# Altium footprint library 15_to_28_PinB.PcbLib: 42 footprints (part 2 of 3)
Each footprint in its own frame and in the unit in brackets; x right, y up, seen from the top. Pads: shape width x height; smd on the part's side, far side on the other; paste and mask are expansions set on the pad; w line width, h text height; cw(c..) or ccw(c..) is an arc to the next point about the centre after c.
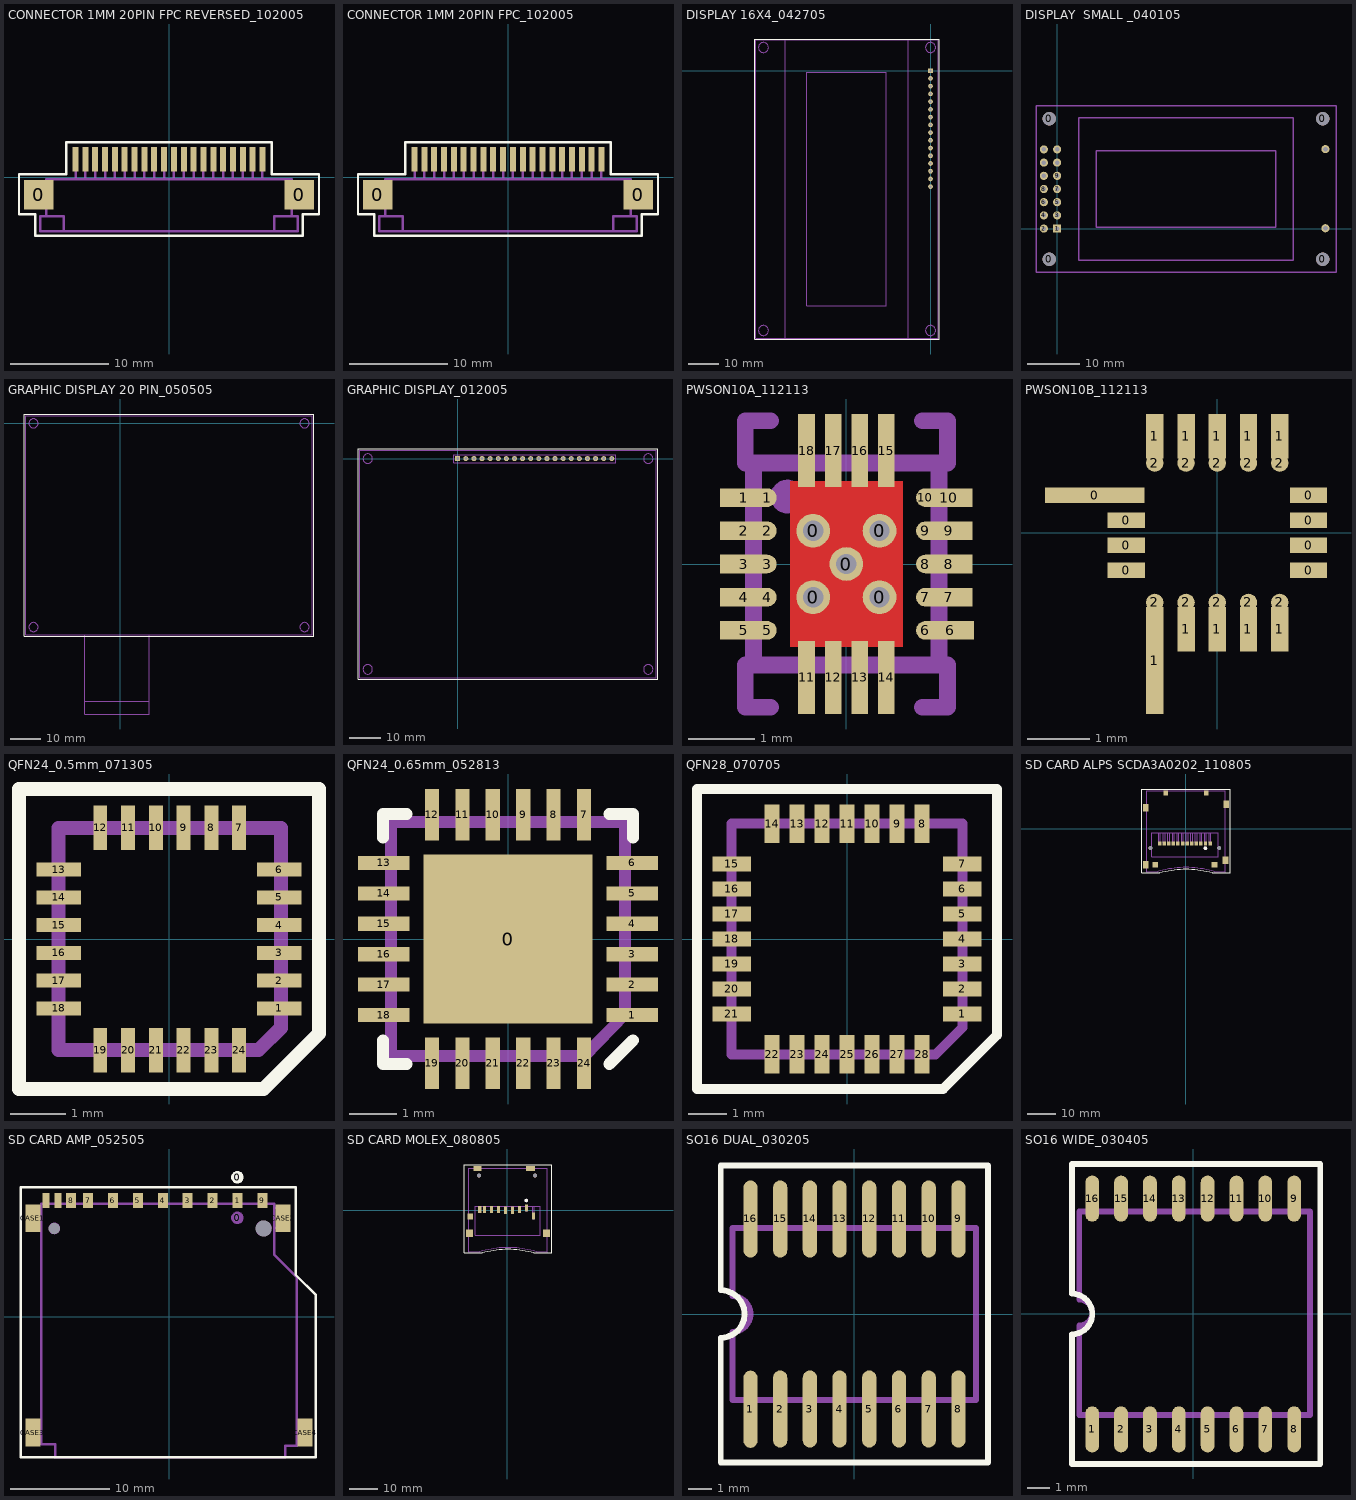
[diagram p1: the footprints below, top view; thin cyan lines are the x and y axes]

## CONNECTOR 1MM 20PIN FPC REVERSED_102005 [mm] "SMT"
height 3.048
pads (22):
  rect 3x3 smd mask+0.038: 0(-13.25,-1.8) 0(13.25,-1.8)
  rect 0.61x2.489 smd mask+0.038: 1(9.5,1.8) 2(8.5,1.8) 3(7.5,1.8) 4(6.5,1.8) 5(5.5,1.8) 6(4.5,1.8) 7(3.5,1.8) 8(2.5,1.8) 9(1.5,1.8) 10(0.5,1.8) 11(-0.5,1.8) 12(-1.5,1.8) 13(-2.5,1.8) 14(-3.5,1.8) 15(-4.5,1.8) 16(-5.5,1.8) 17(-6.5,1.8) 18(-7.5,1.8) 19(-8.5,1.8) 20(-9.5,1.8)
Top Overlay:
  lines w0.254: -15.25,-3.775 -15.25,0.3 -10.425,0.3 -10.425,3.55 0,3.55 10.425,3.55 10.425,0.3 15.25,0.3 15.25,-3.775 13.6,-3.775 13.6,-5.975 0,-5.975 -13.6,-5.975 -13.6,-3.775 -15.25,-3.775
Assembly Outline:
  lines w0.254: -12.85,-4 -10.7,-4 -10.7,-5.5 -13.1,-5.5 -13.1,-4 -12.5,-4 -12.5,-2.25 ; -12.5,-5.5 12.5,-5.5 ; -9.5,-0.2 -9.5,1.8 ; -8.5,-0.2 -8.5,1.8 ; -7.5,-0.2 -7.5,1.8 ; -6.5,-0.2 -6.5,1.8 ; -1.5,-0.2 -1.5,1.8 ; -0.5,-0.2 -0.5,1.8 ; 0.5,-0.2 0.5,1.8 ; 1.5,-0.2 1.5,1.8 ; 2.5,-0.2 2.5,1.8 ; 3.5,-0.2 3.5,1.8 ; 4.5,-0.2 4.5,1.8 ; 5.5,-0.2 5.5,1.8 ; 6.5,-0.2 6.5,1.8 ; 7.5,-0.2 7.5,1.8 ; 8.5,-0.2 8.5,1.8 ; 9.5,-0.2 9.5,1.8 ; 12.85,-4 10.7,-4 10.7,-5.5 13.1,-5.5 13.1,-4 12.5,-4 12.5,-2.25 ; -12.5,-2.25 -12.5,-0.95 ; -12.5,-2.25 -13.8,-2.25 -13.8,-0.95 -12.5,-0.95 ; -12.5,-0.95 -12.5,-0.2 0,-0.2 12.5,-0.2 12.5,-0.95 ; -3.5,-0.2 -3.5,1.8 ; -3.5,-0.2 -3.5,1.8 ; -3.5,-0.2 -3.5,1.8 ; -2.5,-0.2 -2.5,1.8 ; -2.5,-0.2 -2.5,1.8 ; -2.5,-0.2 -2.5,1.8 ; 12.5,-2.25 12.5,-0.95 ; 12.5,-2.25 13.8,-2.25 13.8,-0.95 12.5,-0.95 ; -5.5,-0.2 -5.5,1.8 -5.5,-0.2 ; -4.5,-0.2 -4.5,1.8 -4.5,-0.2
Assembly Designator:
  text ".Designator" at -1.651,-2.794 h1.02
Assembly Comment:
  text ".Comment" at -4.953,-4.445 h1.02

## CONNECTOR 1MM 20PIN FPC_102005 [mm] "SMT"
height 3.048
pads (22):
  rect 3x3 smd mask+0.038: 0(-13.25,-1.8) 0(13.25,-1.8)
  rect 0.61x2.489 smd mask+0.038: 1(-9.5,1.8) 2(-8.5,1.8) 3(-7.5,1.8) 4(-6.5,1.8) 5(-5.5,1.8) 6(-4.5,1.8) 7(-3.5,1.8) 8(-2.5,1.8) 9(-1.5,1.8) 10(-0.5,1.8) 11(0.5,1.8) 12(1.5,1.8) 13(2.5,1.8) 14(3.5,1.8) 15(4.5,1.8) 16(5.5,1.8) 17(6.5,1.8) 18(7.5,1.8) 19(8.5,1.8) 20(9.5,1.8)
Top Overlay:
  lines w0.254: -15.25,-3.775 -13.6,-3.775 -13.6,-5.975 0,-5.975 13.6,-5.975 13.6,-3.775 15.25,-3.775 15.25,0.3 10.425,0.3 10.425,3.55 0,3.55 -10.425,3.55 -10.425,0.3 -15.25,0.3 -15.25,-3.775
Assembly Outline:
  lines w0.254: -12.85,-4 -10.7,-4 -10.7,-5.5 -13.1,-5.5 -13.1,-4 -12.5,-4 -12.5,-2.25 ; -12.5,-5.5 12.5,-5.5 ; -9.5,-0.2 -9.5,1.8 ; -8.5,-0.2 -8.5,1.8 ; -7.5,-0.2 -7.5,1.8 ; -6.5,-0.2 -6.5,1.8 ; -1.5,-0.2 -1.5,1.8 ; -0.5,-0.2 -0.5,1.8 ; 0.5,-0.2 0.5,1.8 ; 1.5,-0.2 1.5,1.8 ; 2.5,-0.2 2.5,1.8 ; 3.5,-0.2 3.5,1.8 ; 4.5,-0.2 4.5,1.8 ; 5.5,-0.2 5.5,1.8 ; 6.5,-0.2 6.5,1.8 ; 7.5,-0.2 7.5,1.8 ; 8.5,-0.2 8.5,1.8 ; 9.5,-0.2 9.5,1.8 ; 12.85,-4 10.7,-4 10.7,-5.5 13.1,-5.5 13.1,-4 12.5,-4 12.5,-2.25 ; -12.5,-2.25 -13.8,-2.25 -13.8,-0.95 -12.5,-0.95 ; -12.5,-2.25 -12.5,-0.95 ; -12.5,-0.95 -12.5,-0.2 0,-0.2 12.5,-0.2 12.5,-0.95 ; -3.5,-0.2 -3.5,1.8 ; -3.5,-0.2 -3.5,1.8 ; -3.5,-0.2 -3.5,1.8 ; -2.5,-0.2 -2.5,1.8 ; -2.5,-0.2 -2.5,1.8 ; -2.5,-0.2 -2.5,1.8 ; 12.5,-2.25 13.8,-2.25 13.8,-0.95 12.5,-0.95 ; 12.5,-2.25 12.5,-0.95 ; -5.5,-0.2 -5.5,1.8 -5.5,-0.2 ; -4.5,-0.2 -4.5,1.8 -4.5,-0.2
Assembly Designator:
  text ".Designator" at -1.651,-2.794 h1.02
Assembly Comment:
  text ".Comment" at -4.953,-4.445 h1.02

## DISPLAY 16X4_042705 [mil] "TH"
height 550
pads (16):
  rect 60x60 hole 30: 1(0,0)
  round 60 hole 30: 2(0,-100) 3(0,-200) 4(0,-300) 5(0,-400) 6(0,-500) 7(0,-600) 8(0,-700) 9(0,-800) 10(0,-900) 11(0,-1000) 12(0,-1100) 13(0,-1200) 14(0,-1300) 15(0,-1400) 16(0,-1500)
Top Overlay:
  lines w8: -2270,-3470 -2270,410 110,410 110,-3470 -2270,-3470
Assembly Outline:
  circle w10: c-2160,-3360 r65.19
  circle w10: c0,-3360 r65.19
  circle w10: c0,300 r65.19
  circle w10: c-2160,300 r65.19
  lines w8: -2260,-3360 -2260,-3460 ; -2160,400 -2260,400 ; -1880,-3460 -1880,400 -2260,400 ; -290,400 -290,-3460 100,-3460 ; 0,-3460 100,-3460 ; 100,300 100,400 ; -2260,-3460 -2260,400 ; -2260,-3460 100,-3460 ; -2260,400 100,400 ; 100,-3460 100,400 ; -1600,-3040 -1600,-20 -570,-20 -570,-3040 -1600,-3040

## DISPLAY  SMALL _040105 [mil] "DISPLAY TH"
height 530
pads (20):
  round 100 hole 100: 0(-60,-232.5) 0(-60,832.5) 0(2015,-232.5) 0(2015,832.5)
  rect 62x62 hole 35: 1(0,0)
  round 62 hole 35: 2(-100,0) 3(0,100) 4(-100,100) 5(0,200) 6(-100,200) 7(0,300) 8(-100,300) 9(0,400) 10(-100,400) 11(0,500) 12(-100,500) 13(0,600) 14(-100,600) 15(2035,602.5) 16(2035,2.5)
Assembly Outline:
  lines w10: -160,300 -160,932.5 ; -60,932.5 -160,932.5 ; 977.5,-332.5 -160,-332.5 ; 2115,7.5 2115,-332.5 ; 2115,597.5 2115,932.5 ; -160,-332.5 2115,-332.5 ; -160,-332.5 -160,592.5 -160,932.5 ; -160,932.5 2115,932.5 ; 2115,-332.5 2115,932.5 ; 162.5,-240 1792.5,-240 1792.5,300 1792.5,840 162.5,840 162.5,300 162.5,-240 ; 297.5,10 1657.5,10 1657.5,300 1657.5,590 297.5,590 297.5,300 297.5,10
Assembly Designator:
  text ".Designator" at 816,258.5 h40
Assembly Comment:
  text ".Comment" at 866,184.5 h40

## GRAPHIC DISPLAY 20 PIN_050505 [mil] "SMT"
height 375
Top Overlay:
  lines w10: -1230,-2720 -1230,120 -1155,120 2470,120 2470,-2720 -1230,-2720
Assembly Outline:
  circle w10: c-1110,0 r58.66
  circle w10: c-1110,-2600 r58.66
  circle w10: c2350,-2600 r58.66
  circle w10: c2350,0 r58.66
  lines w10: 370,-3550 -455,-3550 -455,-3710 ; 370,-2700 370,-3710 -455,-3710 ; -1210,100 -1110,100 ; -1210,100 -1110,100 ; -1210,100 -1210,-2505 -1210,-2700 -1110,-2700 ; -1110,-2700 2450,-2700 2450,-2600 2450,100 ; -1110,-2700 -455,-2700 -455,-3710 ; -1110,100 2350,100 ; -1110,100 2350,100 ; 2350,100 2450,100 ; 2350,100 2450,100

## GRAPHIC DISPLAY_012005 [mil] "TH"
pads (20):
  rect 62x62 hole 35: 1(0,0)
  round 62 hole 35: 2(100,0) 3(200,0) 4(300,0) 5(400,0) 6(500,0) 7(600,0) 8(700,0) 9(800,0) 10(900,0) 11(1000,0) 12(1100,0) 13(1200,0) 14(1300,0) 15(1400,0) 16(1500,0) 17(1600,0) 18(1700,0) 19(1800,0) 20(1900,0)
Top Overlay:
  lines w10: -1230,-2720 2470,-2720 2470,120 -1155,120 -1230,120 -1230,-2720
Assembly Outline:
  circle w10: c2350,0 r58.66
  circle w10: c2350,-2600 r58.66
  circle w10: c-1110,-2600 r58.66
  circle w10: c-1110,0 r58.66
  lines w8: -50,-50 -50,50 25,50 1950,50 1950,-50 -50,-50
  lines w10: -1210,100 -1210,-2505 -1210,-2700 -1110,-2700 2450,-2700 2450,-2600 2450,100 ; -1210,100 -1110,100 ; -1210,100 -1110,100 ; -1110,100 2350,100 ; -1110,100 2350,100 ; 2350,100 2450,100 ; 2350,100 2450,100
Assembly Designator:
  text ".Designator" at 845,-185 h40
Assembly Comment:
  text ".Comment" at 770,-125 h40

## PWSON10A_112113 [mm]
pads (33):
  round 0.508 hole 0.305: 0(-0.5,-0.5) 0(-0.5,0.5) 0(0,0) 0(0.5,-0.5) 0(0.5,0.5)
  rect 0.71x0.28 smd mask+0.038: 1(-1.545,1) 2(-1.545,0.5) 3(-1.545,0) 4(-1.545,-0.5) 5(-1.545,-1) 6(1.565,-1) 7(1.545,-0.5) 8(1.545,0) 9(1.545,0.5) 10(1.545,1)
  round 0.28 smd mask+0.038: 1(-1.19,1) 2(-1.19,0.5) 3(-1.19,0) 4(-1.19,-0.5) 5(-1.19,-1) 6(1.19,-1) 7(1.19,-0.5) 8(1.19,0) 9(1.19,0.5) 10(1.19,1)
  rect 0.25x1.1 smd mask+0.038: 11(-0.6,-1.71) 12(-0.2,-1.71) 13(0.2,-1.71) 14(0.6,-1.71) 15(0.6,1.71) 16(0.2,1.71) 17(-0.2,1.71) 18(-0.6,1.71)
Top Layer:
  region: 0.85,-1.25 0.85,1.25 -0.85,1.25 -0.85,-1.25
Assembly Outline:
  circle w0.254: c-0.889,1.016 r0.127
  lines w0.254: -1.397,-1.524 -1.397,1.524 1.397,1.524 1.397,-1.524 -1.397,-1.524
Mechanical:
  lines w0.254: -1.524,-1.524 -1.524,-2.159 -1.143,-2.159 ; -1.524,1.524 -1.524,2.159 -1.143,2.159 ; 1.143,-2.159 1.524,-2.159 1.524,-1.524 ; 1.143,2.159 1.524,2.159 1.524,1.524
Assembly Designator:
  text ".Designator" at -1.397,2.159 h1.02
Assembly Comment:
  text ".Comment" at -3.81,-3.048 h1.02

## PWSON10B_112113 [mm]
pads (28):
  rect 1.6x0.25 smd: 0(-1.96,0.6)
  rect 0.6x0.25 smd: 0(-1.46,-0.6) 0(-1.46,-0.2) 0(-1.46,0.2) 0(1.46,-0.6) 0(1.46,-0.2) 0(1.46,0.2) 0(1.46,0.6)
  rect 0.28x1.71 smd: 1(-1,-2.045)
  rect 0.28x0.71 smd: 1(-1,1.545) 1(-0.5,-1.545) 1(-0.5,1.545) 1(0,-1.545) 1(0,1.545) 1(0.5,-1.545) 1(0.5,1.545) 1(1,-1.545) 1(1,1.545)
  round 0.28 smd: 2(-1,-1.115) 2(-1,1.115) 2(-0.5,-1.115) 2(-0.5,1.115) 2(0,-1.115) 2(0,1.115) 2(0.5,-1.115) 2(0.5,1.115) 2(1,-1.115) 2(1,1.115)

## QFN24_0.5mm_071305 [mm] "SMT"
height 0.75
pads (24):
  rect 0.8x0.25 smd mask+0.038: 1(1.988,-1.25) 2(1.988,-0.75) 3(1.988,-0.25) 4(1.988,0.25) 5(1.988,0.75) 6(1.988,1.25) 13(-1.987,1.25) 14(-1.987,0.75) 15(-1.987,0.25) 16(-1.987,-0.25) 17(-1.987,-0.75) 18(-1.987,-1.25)
  rect 0.25x0.8 smd mask+0.038: 7(1.263,2) 8(0.763,2) 9(0.263,2) 10(-0.237,2) 11(-0.737,2) 12(-1.237,2) 19(-1.237,-2) 20(-0.737,-2) 21(-0.237,-2) 22(0.263,-2) 23(0.763,-2) 24(1.263,-2)
Top Overlay:
  lines w0.254: 2.7,0 2.7,2.7 ; 2.7,2.7 -2.7,2.7 -2.7,-2.7 1.7,-2.7 2.7,-1.7 2.7,2.7
Assembly Outline:
  lines w0.254: 0.013,2 -1.987,2 ; -1.987,2 -1.987,-2 1.613,-2 2.013,-1.6 2.013,2 -1.987,2
Assembly Designator:
  text ".Designator" at -1.05,-0.425 h1.02
Assembly Comment:
  text ".Comment" at -2.7,-3.7 h1.02

## QFN24_0.65mm_052813 [mm] "SMT"
height 0.813
pads (25):
  rect 3.6x3.6 smd: 0(0,0)
  rect 1.1x0.3 smd mask+0.038: 1(2.65,-1.625) 2(2.65,-0.975) 3(2.65,-0.325) 4(2.65,0.325) 5(2.65,0.975) 6(2.65,1.625) 13(-2.65,1.625) 14(-2.65,0.975) 15(-2.65,0.325) 16(-2.65,-0.325) 17(-2.65,-0.975) 18(-2.65,-1.625)
  rect 0.3x1.1 smd mask+0.038: 7(1.625,2.65) 8(0.975,2.65) 9(0.325,2.65) 10(-0.325,2.65) 11(-0.975,2.65) 12(-1.625,2.65) 19(-1.625,-2.65) 20(-0.975,-2.65) 21(-0.325,-2.65) 22(0.325,-2.65) 23(0.975,-2.65) 24(1.625,-2.65)
Top Overlay:
  lines w0.254: -2.667,-2.159 -2.667,-2.667 -2.159,-2.667 ; -2.667,2.159 -2.667,2.667 -2.159,2.667 ; 2.159,-2.667 2.667,-2.159 ; 2.159,2.667 2.667,2.667 2.667,2.159
Assembly Outline:
  lines w0.254: -2.5,-2.5 1.625,-2.5 2.5,-1.6 2.5,2.5 -2.5,2.5 -2.5,-2.5
Assembly Designator:
  text ".Designator" at -1.05,-0.425 h1.02
Assembly Comment:
  text ".Comment" at -3.556,-3.81 h1.02

## QFN28_070705 [mm] "SMT"
height 0.889
pads (28):
  rect 1x0.381 smd mask+0.038: 1(3,-1.95) 2(3,-1.3) 3(3,-0.65) 4(3,0) 5(3,0.65) 6(3,1.3) 7(3,1.95) 15(-3,1.95) 16(-3,1.3) 17(-3,0.65) 18(-3,0) 19(-3,-0.65) 20(-3,-1.3) 21(-3,-1.95)
  rect 0.381x1 smd mask+0.038: 8(1.95,3) 9(1.3,3) 10(0.65,3) 11(0,3) 12(-0.65,3) 13(-1.3,3) 14(-1.95,3) 22(-1.95,-3) 23(-1.3,-3) 24(-0.65,-3) 25(0,-3) 26(0.65,-3) 27(1.3,-3) 28(1.95,-3)
Top Overlay:
  lines w0.254: 0,-3.9 -3.9,-3.9 ; 3.9,0 3.9,3.9 ; -3.9,-3.9 -3.9,0 -3.9,3.9 0,3.9 3.9,3.9 ; -3.9,-3.9 2.5,-3.9 3.9,-2.5 3.9,3.9
Assembly Outline:
  lines w0.254: 0,3 -3,3 ; -3,3 -3,-3 2.3,-3 3,-2.3 3,3 -3,3
Assembly Designator:
  text ".Designator" at -1.3,-0.4 h1.02
Assembly Comment:
  text ".Comment" at -2.9,-5.1 h1.02

## SD CARD ALPS SCDA3A0202_110805 [mm] "SMT"
height 2.9
pads (24):
  round 1.3 hole 1.3 unplated paste+0 mask+0.038: 0(-12.4,-6.7) 0(11.6,-6.7)
  round 1.27 on Top Overlay paste+0 mask+0.038: 0(6.775,-6.75)
  round 1.27 on Mech1 paste+0 mask+0.038: 0(6.775,-6.75)
  rect 1.2x1.4 smd paste+0 mask+0.038: 1(6.8,-5.1) 2(5.2,-5.1) 3(2,-5.1) 3(3.6,-5.1) 4(-1.2,-5.1) 4(0.4,-5.1) 5(-2.8,-5.1) 6(-4.4,-5.1) 7(-6,-5.1) 8(-7.6,-5.1) 9(8.4,-5.1) WP(-9.2,-5.1)
  rect 2x2 smd paste+0 mask+0.038: CASE1(-10.75,-12.5) CASE2(9.95,-12.5)
  rect 1.6x1.7 smd paste+0 mask+0.038: CASE3(7.05,12.5) CD(-7.05,12.5)
  rect 2x2.6 smd paste+0 mask+0.038: CASE4(-14,-12.5) CASE4(-14,7.3) CASE4(13.75,-10.95) CASE4(14,8.5)
Top Overlay:
  lines w0.254: -15.5,-15.372 -15.5,13.875 15.5,13.875 15.5,-15.372 15.225,-15.372 9.233,-15.372 ccw(c-0.45,-52.405) 0,-14.13 ccw(c0.45,-52.405) -9.233,-15.372 -15.5,-15.372
Assembly Outline:
  lines w0.254: -13.75,-12.7 -14.25,-12.7 -14.25,-12.2 -14.25,-11.7 -13.75,-11.7 ; -13.75,-12.2 -13.75,13.3 ; -13.75,-9.7 -13.75,13.3 ; -13.75,-5.8 -13.75,13.3 ; -13.75,-5.2 -13.75,13.3 ; -13.75,-1.4 -13.75,13.3 ; -13.75,6.95 -14.25,6.95 -14.25,7.45 -14.25,7.95 -13.75,7.95 ; -13.75,11.7 -13.75,13.3 ; -12,13.3 -13.75,13.3 ; -9.725,-1.4 -9.5,-1.4 -9.5,-5.1 -9.2,-5.1 -8.9,-5.1 -8.9,-1.4 ; -7.9,-1.4 -7.9,-5.1 -7.6,-5.1 -7.3,-5.1 -7.3,-1.4 ; -6.3,-1.4 -6.3,-5.1 -6,-5.1 -5.7,-5.1 -5.7,-1.4 ; -4.7,-1.4 -4.7,-5.1 -4.4,-5.1 -4.1,-5.1 -4.1,-1.4 ; -3.1,-1.4 -3.1,-5.1 -2.8,-5.1 -2.5,-5.1 -2.5,-1.4 ; -1.5,-1.4 -1.5,-5.1 -1.2,-5.1 -0.9,-5.1 -0.9,-1.4 ; 0.1,-1.4 0.1,-5.1 0.4,-5.1 0.7,-5.1 0.7,-1.4 ; 1.7,-1.4 1.7,-5.1 2,-5.1 2.3,-5.1 2.3,-1.4 ; 3.3,-1.4 3.3,-5.1 3.6,-5.1 3.9,-5.1 3.9,-1.4 ; 4.9,-1.4 4.9,-5.1 5.2,-5.1 5.5,-5.1 5.5,-1.4 ; 6.5,-1.4 6.5,-5.1 6.8,-5.1 7.1,-5.1 7.1,-1.4 ; 8.1,-1.4 8.1,-5.1 8.4,-5.1 8.7,-5.1 8.7,-1.4 ; 11.25,13.3 13.75,13.3 ; 13.75,-11.45 14.25,-11.45 14.25,-10.95 14.25,-10.45 13.75,-10.45 ; 13.75,-10.95 13.75,13.3 ; 13.75,8.3 14.25,8.3 14.25,8.8 14.25,9.3 13.75,9.3 ; 13.75,8.8 13.75,13.3 ; -13.75,13.3 -13.75,-4.4 -13.75,13.3 ; -13.75,13.3 -13.75,-14.9 -10.001,-14.9 cw(c0.425,-51.73) 0,-13.455 cw(c-0.425,-51.73) 10.001,-14.9 13.75,-14.9 13.75,13.3 ; -13.75,13.3 13.75,13.3 ; -12,-9.7 9.725,-9.7 11.25,-9.7 11.25,-3.5 11.25,-1.4 10.475,-1.4 -12,-1.4 -12,-9.7
Assembly Designator:
  text ".Designator" at -0.6,-0.15 h1.02
Assembly Comment:
  text ".Comment" at -0.55,1.325 h1.02

## SD CARD AMP_052505 [mm] "SMT"
height 3.175
pads (19):
  round 0.4 hole 1.143 unplated paste+0 mask+0.038: 0(-11.5,8.837)
  round 1.27 on Mech1 paste+0 mask+0.038: 0(6.858,9.906)
  round 1.27 on Top Overlay paste+0 mask+0.038: 0(6.858,13.97)
  round 0.4 hole 1.6 unplated paste+0 mask+0.038: 0(9.5,8.837)
  rect 1x1.5 smd paste+0 mask+0.038: 1(6.875,11.637) 2(4.375,11.637) 3(1.875,11.637) 4(-0.625,11.637) 5(-3.125,11.637) 6(-5.625,11.637) 7(-8.125,11.637) 8(-9.825,11.637) 9(9.375,11.637)
  rect 1.5x2.8 smd paste+0 mask+0.038: CASE1(-13.65,9.862) CASE2(11.45,9.862) CASE3(-13.65,-11.637) CASE4(13.65,-11.637)
  rect 0.7x1.5 smd paste+0 mask+0.038: CD(-11.125,11.637) WP(-12.325,11.637)
Top Overlay:
  lines w0.254: -14.859,-14.097 14.732,-14.097 14.732,2.159 12.7,4.191 12.7,12.954 -14.859,12.954 -14.859,-14.097
Assembly Outline:
  circle w0.254: c-11.506,8.839 r0.457
  circle w0.254: c9.5,8.839 r0.686
  rectangle: 9.144,11.303 9.652,12.065
  rectangle: 6.604,11.303 7.112,12.065
  rectangle: 4.115,11.303 4.623,12.065
  rectangle: 1.626,11.303 2.134,12.065
  rectangle: -0.864,11.303 -0.356,12.065
  rectangle: -3.378,11.303 -2.87,12.065
  rectangle: -5.867,11.303 -5.359,12.065
  rectangle: -8.382,11.303 -7.874,12.065
  rectangle: -10.084,11.303 -9.576,12.065
  rectangle: -11.379,11.303 -10.871,12.065
  rectangle: -12.573,11.303 -12.065,12.065
  lines w0.254: -12.827,-12.573 -13.843,-12.573 -13.843,-10.541 -12.827,-10.541 ; -12.827,8.89 -13.843,8.89 -13.843,10.922 -12.827,10.922 ; 10.541,8.89 11.557,8.89 11.557,10.922 10.541,10.922 ; 12.827,-12.573 13.843,-12.573 13.843,-10.541 12.827,-10.541 ; -12.827,-12.827 -11.43,-12.827 -11.43,-14.097 11.684,-14.097 11.684,-12.954 12.827,-12.954 12.827,3.937 10.541,6.223 10.541,11.303 -12.827,11.303 -12.827,-12.827
Assembly Designator:
  text ".Designator" at -2.032,-1.981 h1.02
Assembly Comment:
  text ".Comment" at -7.569,8.052 h1.02

## SD CARD MOLEX_080805 [mm] "SMT"
height 3.1
pads (18):
  round 1.36 hole 1.36 unplated paste+0 mask+0.038: 0(-10.025,12.375) 0(9.975,12.375)
  round 1.27 on Top Overlay paste+0 mask+0.038: 0(6.825,3.475)
  round 1.27 on Mech1 paste+0 mask+0.038: 0(6.825,3.475)
  rect 1.1x2.5 smd paste+0 mask+0.038: 1(6.85,0.8) 2(4.35,0.275) 3(1.85,0) 4(-0.65,0) 5(-3.15,0.275) 6(-5.65,0.275) 7(-8.15,0.275) 8(-9.775,0.275) 9(9.35,-2.125)
  rect 2.5x2.6 smd paste+0 mask+0.038: CASE1(-13.425,-8.225) CASE2(13.975,-8.225)
  rect 2.8x1.7 smd paste+0 mask+0.038: CASE3(-10.575,14.85)
  rect 3.3x1.7 smd paste+0 mask+0.038: CD(8.325,14.85)
  rect 1.95x2.3 smd paste+0 mask+0.038: WP(-13.15,-2.225)
Top Overlay:
  lines w0.254: -15.325,-15.218 -8.933,-15.218 cw(c0.75,-52.25) 0.3,-13.975 cw(c-0.15,-52.25) 9.533,-15.218 15.975,-15.218 15.975,16.3 14.775,16.3 0.325,16.3 -14.125,16.3 -15.325,16.3 -15.325,-15.218
Assembly Outline:
  lines w0.254: -13.7,-9.125 -14.225,-9.125 -14.225,-8.225 -14.225,-7.325 -13.7,-7.325 ; 0.3,15.05 14.3,15.05 ; 6.6,1.45 6.6,-0.125 ; 7.1,1.45 7.1,-0.125 ; 14.3,-9.125 14.775,-9.125 14.775,-8.225 14.775,-7.325 14.3,-7.325 ; -10.025,-0.65 -9.775,-0.65 ; -10.025,-0.65 -10.025,1.45 ; -10.025,-0.65 -10.025,1.45 ; -10.025,-0.65 -9.775,-0.65 ; -10.025,1.45 -9.525,1.45 ; -10.025,1.45 -9.525,1.45 ; -9.775,-0.65 -9.525,-0.65 ; -9.775,-0.65 -9.525,-0.65 ; -9.525,-0.65 -9.525,1.45 ; -9.525,-0.65 -9.525,1.45 ; 6.6,-0.125 6.85,-0.125 7.1,-0.125 ; 6.6,-0.125 7.1,-0.125 ; 14.3,15.05 14.3,-14.745 10.301,-14.745 ccw(c-0.125,-51.575) 0.3,-13.3 ccw(c0.725,-51.575) -9.701,-14.745 -13.7,-14.745 -13.7,1.45 -13.7,15.05 14.3,15.05 ; -11.4,-8.95 -11.4,1.45 11.8,1.45 11.8,-8.95 -11.4,-8.95 ; -8.4,-0.65 -8.4,1.45 -7.9,1.45 -7.9,-0.65 -8.15,-0.65 -8.4,-0.65 ; -5.9,-0.65 -5.9,1.45 -5.4,1.45 -5.4,-0.65 -5.65,-0.65 -5.9,-0.65 ; -3.4,-0.65 -3.4,1.45 -2.9,1.45 -2.9,-0.65 -3.15,-0.65 -3.4,-0.65 ; -0.9,-0.925 -0.9,1.175 -0.9,1.45 -0.4,1.45 -0.4,1.175 -0.4,-0.925 -0.65,-0.925 -0.9,-0.925 ; 1.6,-0.925 1.6,1.175 1.6,1.45 2.1,1.45 2.1,1.175 2.1,-0.925 1.85,-0.925 1.6,-0.925 ; 4.1,-0.65 4.1,1.45 4.6,1.45 4.6,-0.65 4.35,-0.65 4.1,-0.65 ; 9.1,-3.05 9.1,-0.95 9.1,1.45 9.6,1.45 9.6,-0.95 9.6,-3.05 9.35,-3.05 9.1,-3.05
Assembly Designator:
  text ".Designator" at -1.275,4.725 h1.02
Assembly Comment:
  text ".Comment" at -2.625,2.025 h1.02

## SO16 DUAL_030205 [mil] "SMT"
height 100
pads (16):
  oval 24x130 smd mask+1.5: 1(-175,-160.16) 2(-125,-159.84) 3(-75,-159.84) 4(-25,-159.84) 5(25,-159.84) 6(75,-159.84) 7(125,-159.84) 8(175,-159.84) 9(175,160.16) 10(125,160.16) 11(75,160.16) 12(25,160.16) 13(-25,160.16) 14(-75,160.16) 15(-125,160.16) 16(-175,160.16)
Top Overlay:
  lines w10: -225,-249.84 225,-249.84 225,250.16 -225,250.16 -225,40.16 cw(c-225,0.16) -225,-39.84 -225,-249.84
Assembly Outline:
  lines w8: -175,-189.84 -175,-144.84 ; -175,145.16 -175,190.16 ; -125,-189.84 -125,-144.84 ; -125,145.16 -125,190.16 ; -75,-189.84 -75,-144.84 ; -75,145.16 -75,190.16 ; -25,-189.84 -25,-144.84 ; -25,145.16 -25,190.16 ; 25,-189.84 25,-144.84 ; 25,145.16 25,190.16 ; 75,-189.84 75,-144.84 ; 75,145.16 75,190.16 ; 125,-189.84 125,-144.84 ; 125,145.16 125,190.16 ; 175,-189.84 175,-144.84 ; 175,145.16 175,190.16
  lines w10: -205,-144.84 -205,-29.84 ccw(c-205,0.16) -205,30.16 -205,145.16 205,145.16 205,-144.84 -205,-144.84
Assembly Designator:
  text ".Designator" at -64,-13 h40
Assembly Comment:
  text ".Comment" at -157.48,-68.9 h40

## SO16 WIDE_030405 [mil] "SMT"
height 100
pads (16):
  oval 24x80 smd mask+1.5: 1(-175,-200) 2(-125,-200) 3(-75,-200) 4(-25,-200) 5(25,-200) 6(75,-200) 7(125,-200) 8(175,-200) 9(175,200) 10(125,200) 11(75,200) 12(25,200) 13(-25,200) 14(-75,200) 15(-125,200) 16(-175,200)
Top Overlay:
  lines w10: -210,-260 -210,-140 -210,-35 ccw(c-210,0) -210,35 -210,260 220,260 220,-260 -210,-260
Assembly Outline:
  lines w10: -180,177.5 -180,205 -170,205 -170,177.5 ; -170,-175 -170,-202.5 -180,-202.5 -180,-175 ; -130,-175 -130,-202.5 -120,-202.5 -120,-175 ; -130,177.5 -130,205 -120,205 -120,177.5 ; -80,-175 -80,-202.5 -70,-202.5 -70,-175 ; -80,177.5 -80,205 -70,205 -70,177.5 ; -30,-175 -30,-202.5 -20,-202.5 -20,-175 ; -30,177.5 -30,205 -20,205 -20,177.5 ; 20,-175 20,-202.5 30,-202.5 30,-175 ; 20,177.5 20,205 30,205 30,177.5 ; 70,-175 70,-202.5 80,-202.5 80,-175 ; 70,177.5 70,205 80,205 80,177.5 ; 120,-175 120,-202.5 130,-202.5 130,-175 ; 120,177.5 120,205 130,205 130,177.5 ; 170,-175 170,-202.5 180,-202.5 180,-175 ; 170,177.5 170,205 180,205 180,177.5 ; -180,-175 202.5,-175 202.5,177.5 -197.5,177.5 -197.5,25 cw(c-197.5,2.5) -197.5,-20 -197.5,-117.5 -197.5,-175 -180,-175
Assembly Designator:
  text ".Designator" at -47,-15 h40
Assembly Comment:
  text ".Comment" at -166,-140 h40